# Altium schematic symbol library MB0055A.01.A.1.SchLib: 1 symbol
Pins are listed as number, name and electrical type; pins without a type are passive.

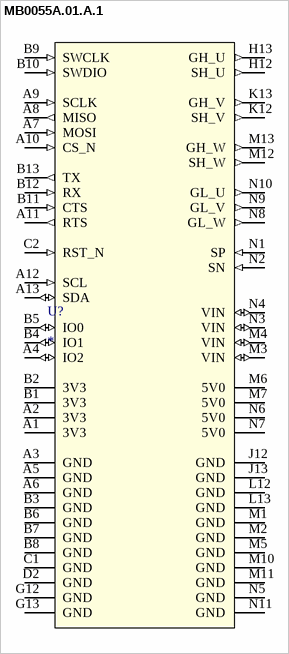
[diagram p0: symbol MB0055A.01.A.1]

## MB0055A.01.A.1
designator U?
pins: A1 3V3 (power), A2 3V3 (power), A3 GND (power), A4 IO2 (io), A5 GND, A6 GND, A7 MOSI (in), A8 MISO (out), A9 SCLK (in), A10 CS_N (in), A11 RTS (out), A12 SCL (in), A13 SDA (io), B1 3V3 (power), B2 3V3 (power), B3 GND (power), B4 IO1 (io), B5 IO0 (io), B6 GND, B7 GND, B8 GND, B9 SWCLK (in), B10 SWDIO (in), B11 CTS (in), B12 RX (in), B13 TX (out), C1 GND (power), C2 RST_N (in), D2 GND (power), G12 GND (power), G13 GND (power), H12 SH_U (out), H13 GH_U (out), J12 GND (power), J13 GND (power), K12 SH_V (out), K13 GH_V (out), L12 GND (power), L13 GND (power), M1 GND (power), M2 GND (power), M3 VIN (io), M4 VIN (io), M5 GND (power), M6 5V0 (power), M7 5V0 (power), M10 GND, M11 GND, M12 SH_W (out), M13 GH_W (out), N1 SP (in), N2 SN (in), N3 VIN (io), N4 VIN (io), N5 GND (power), N6 5V0 (power), N7 5V0 (power), N8 GL_W (out), N9 GL_V (out), N10 GL_U (out), N11 GND